# Altium integrated library BSP75NTA.IntLib: 2 symbols
Pins are listed as number, name and electrical type; pins without a type are passive.

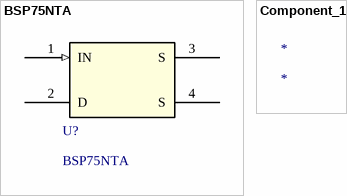
[diagram p0: symbols BSP75NTA to Component_1]

## BSP75NTA
designator U?
No Description Available; Mfr_Name: Diodes Inc; Copyright: Copyright (C) 2022 Ultra Librarian. All rights reserved.; Manufacturer_Part_Number: BSP75NTA; Digi-Key_Part_Number_1: BSP75NCT-ND; Digi-Key_Part_Number_2: BSP75NDKR-ND; Digi-Key_Part_Number_3: BSP75NTR-ND; RefDes: RefDes; Type: DEV
footprint SOT-223_DIO
pins: 1 IN (in), 2 D, 3 S, 4 S

## Component_1
designator *